# EAGLE library part DECADE-LIBRARIES_DECADE-NRF24AP2-PCB-ANT (library antduino)
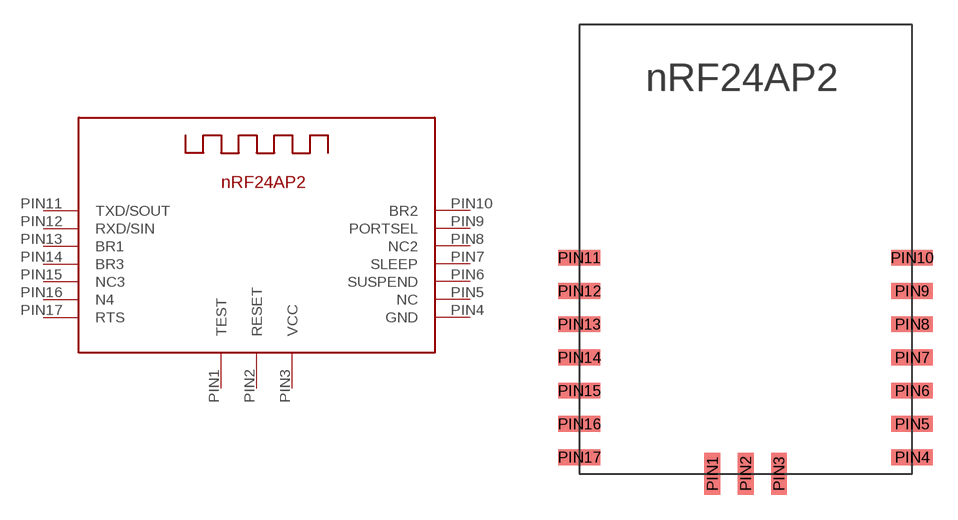
[diagram p0: symbol with the pads of DECADE-LIBRARIES_DECADE-NRF24AP2-PCB; footprint DECADE-LIBRARIES_DECADE-NRF24AP2-PCB]

Designator prefix -

## DECADE-LIBRARIES_DECADE-NRF24AP2-PCB-ANT  [DECADE-LIBRARIES_DECADE-NRF24AP2-PCB]
PIN1  TEST
PIN2  RESET
PIN3  VCC
PIN4  GND
PIN5  NC
PIN6  SUSPEND
PIN7  SLEEP
PIN8  NC2
PIN9  PORTSEL
PIN10  BR2
PIN11  TXD/SOUT
PIN12  RXD/SIN
PIN13  BR1
PIN14  BR3
PIN15  NC3
PIN16  N4
PIN17  RTS

## Footprint DECADE-LIBRARIES_DECADE-NRF24AP2-PCB (pad centres in mm)
smd 0.95 x 2.5: PIN1 -2,-10; PIN2 0,-10; PIN3 2,-10
smd 2.5 x 0.95: PIN4 10,-9; PIN5 10,-7; PIN6 10,-5; PIN7 10,-3; PIN8 10,-1; PIN9 10,1; PIN10 10,3; PIN11 -10,3; PIN12 -10,1; PIN13 -10,-1; PIN14 -10,-3; PIN15 -10,-5; PIN16 -10,-7; PIN17 -10,-9